# Altium schematic symbol library DG-306-4.Schlib: 1 symbol
Pins are listed as number, name and electrical type; pins without a type are passive.

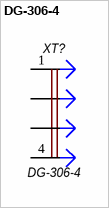
[diagram p0: symbol DG-306-4]

## DG-306-4
designator XT?
Terminal Block 5.08mm; Manufacturer: *; Supplier 1: *; ComponentLinkURL: *; ComponentLinkDescription: *; Supplier 2: *; PackageReference: *; MPN: *; Value: DG-306-4
pins: 1, 2, 3, 4